# EAGLE library part PINHEADER-6*1 (library PINHEADER)
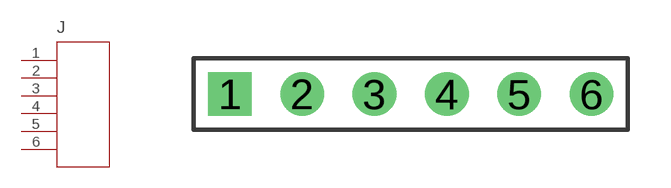
[diagram p0: symbol with the pads of PINHEADER-6*1; footprint PINHEADER-6*1]

Designator prefix J

## PINHEADER-616*1  [PINHEADER-6*1]
1  1
2  2
3  3
4  4
5  5
6  6

## Footprint PINHEADER-6*1 (pad centres in mm)
drill 1.02 square: 1 -6.35,0
drill 1.02: 2 -3.81,0; 3 -1.27,0; 4 1.27,0; 5 3.81,0; 6 6.35,0